# EAGLE library part FPC_10_PIN (library Taylor)
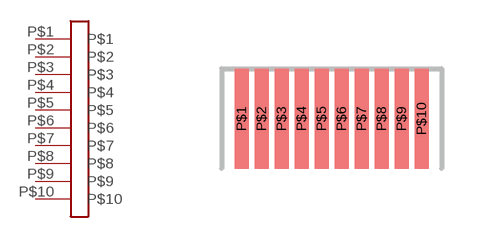
[diagram p26: symbol with the pads of FFC_PAD_10; footprint FFC_PAD_10]

Designator prefix -

## FPC_10_PIN  [FFC_PAD_10]
P$1  P$1
P$2  P$2
P$3  P$3
P$4  P$4
P$5  P$5
P$6  P$6
P$7  P$7
P$8  P$8
P$9  P$9
P$10  P$10

## Footprint FFC_PAD_10 (pad centres in mm)
smd 0.35 x 2.5: P$1 -2.25,1.25; P$2 -1.75,1.25; P$3 -1.25,1.25; P$4 -0.75,1.25; P$5 -0.25,1.25; P$6 0.25,1.25; P$7 0.75,1.25; P$8 1.25,1.25; P$9 1.75,1.25; P$10 2.25,1.25